# EAGLE library part HTRAM2 (library Transputers)
HTRAM size-2 Board INMOS Standard Transputer Boards for T9000 series components. Source: INMOS T9000 development Tools Preliminary Datasheets 1993. Arto Kyyhkynen, artoky@dlc.fi
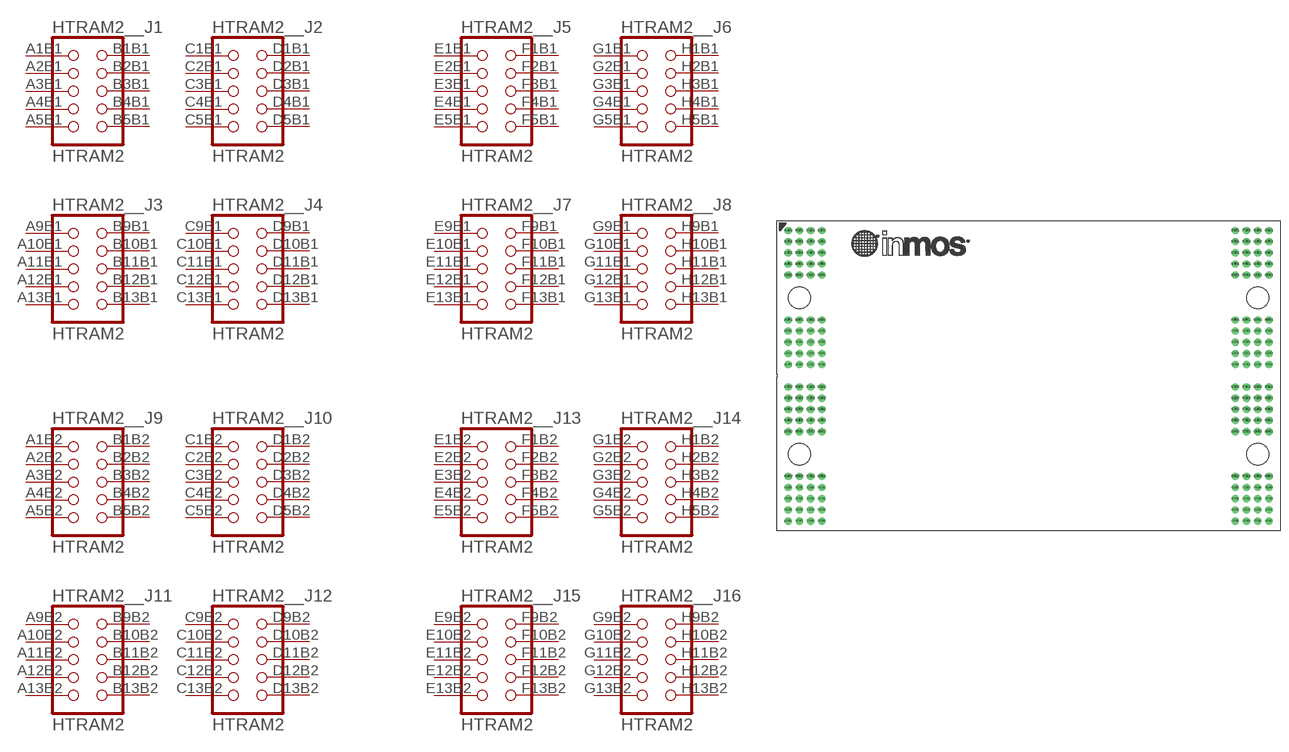
[diagram p20: symbol with the pads of HTRAM-SIZE2; footprint HTRAM-SIZE2]

Designator prefix HTRAM2_; gates _J1=HTRAM_TMM _J2=HTRAM_TMM _J3=HTRAM_TMM _J4=HTRAM_TMM _J5=HTRAM_TMM _J6=HTRAM_TMM _J7=HTRAM_TMM _J8=HTRAM_TMM _J9=HTRAM_TMM _J10=HTRAM_TMM _J11=HTRAM_TMM _J12=HTRAM_TMM _J13=HTRAM_TMM _J14=HTRAM_TMM _J15=HTRAM_TMM _J16=HTRAM_TMM

## HTRAM2  [HTRAM-SIZE2]
A1B1  _J1:1  pas
A1B2  _J9:1  pas
A2B1  _J1:3  pas
A2B2  _J9:3  pas
A3B1  _J1:5  pas
A3B2  _J9:5  pas
A4B1  _J1:7  pas
A4B2  _J9:7  pas
A5B1  _J1:9  pas
A5B2  _J9:9  pas
A9B1  _J3:1  pas
A9B2  _J11:1  pas
A10B1  _J3:3  pas
A10B2  _J11:3  pas
A11B1  _J3:5  pas
A11B2  _J11:5  pas
A12B1  _J3:7  pas
A12B2  _J11:7  pas
A13B1  _J3:9  pas
A13B2  _J11:9  pas
B1B1  _J1:2  pas
B1B2  _J9:2  pas
B2B1  _J1:4  pas
B2B2  _J9:4  pas
B3B1  _J1:6  pas
B3B2  _J9:6  pas
B4B1  _J1:8  pas
B4B2  _J9:8  pas
B5B1  _J1:10  pas
B5B2  _J9:10  pas
B9B1  _J3:2  pas
B9B2  _J11:2  pas
B10B1  _J3:4  pas
B10B2  _J11:4  pas
B11B1  _J3:6  pas
B11B2  _J11:6  pas
B12B1  _J3:8  pas
B12B2  _J11:8  pas
B13B1  _J3:10  pas
B13B2  _J11:10  pas
C1B1  _J2:1  pas
C1B2  _J10:1  pas
C2B1  _J2:3  pas
C2B2  _J10:3  pas
C3B1  _J2:5  pas
C3B2  _J10:5  pas
C4B1  _J2:7  pas
C4B2  _J10:7  pas
C5B1  _J2:9  pas
C5B2  _J10:9  pas
C9B1  _J4:1  pas
C9B2  _J12:1  pas
C10B1  _J4:3  pas
C10B2  _J12:3  pas
C11B1  _J4:5  pas
C11B2  _J12:5  pas
C12B1  _J4:7  pas
C12B2  _J12:7  pas
C13B1  _J4:9  pas
C13B2  _J12:9  pas
D1B1  _J2:2  pas
D1B2  _J10:2  pas
D2B1  _J2:4  pas
D2B2  _J10:4  pas
D3B1  _J2:6  pas
D3B2  _J10:6  pas
D4B1  _J2:8  pas
D4B2  _J10:8  pas
D5B1  _J2:10  pas
D5B2  _J10:10  pas
D9B1  _J4:2  pas
D9B2  _J12:2  pas
D10B1  _J4:4  pas
D10B2  _J12:4  pas
D11B1  _J4:6  pas
D11B2  _J12:6  pas
D12B1  _J4:8  pas
D12B2  _J12:8  pas
D13B1  _J4:10  pas
D13B2  _J12:10  pas
E1B1  _J5:1  pas
E1B2  _J13:1  pas
E2B1  _J5:3  pas
E2B2  _J13:3  pas
E3B1  _J5:5  pas
E3B2  _J13:5  pas
E4B1  _J5:7  pas
E4B2  _J13:7  pas
E5B1  _J5:9  pas
E5B2  _J13:9  pas
E9B1  _J7:1  pas
E9B2  _J15:1  pas
E10B1  _J7:3  pas
E10B2  _J15:3  pas
E11B1  _J7:5  pas
E11B2  _J15:5  pas
E12B1  _J7:7  pas
E12B2  _J15:7  pas
E13B1  _J7:9  pas
E13B2  _J15:9  pas
F1B1  _J5:2  pas
F1B2  _J13:2  pas
F2B1  _J5:4  pas
F2B2  _J13:4  pas
F3B1  _J5:6  pas
F3B2  _J13:6  pas
F4B1  _J5:8  pas
F4B2  _J13:8  pas
F5B1  _J5:10  pas
F5B2  _J13:10  pas
F9B1  _J7:2  pas
F9B2  _J15:2  pas
F10B1  _J7:4  pas
F10B2  _J15:4  pas
F11B1  _J7:6  pas
F11B2  _J15:6  pas
F12B1  _J7:8  pas
F12B2  _J15:8  pas
F13B1  _J7:10  pas
F13B2  _J15:10  pas
G1B1  _J6:1  pas
G1B2  _J14:1  pas
G2B1  _J6:3  pas
G2B2  _J14:3  pas
G3B1  _J6:5  pas
G3B2  _J14:5  pas
G4B1  _J6:7  pas
G4B2  _J14:7  pas
G5B1  _J6:9  pas
G5B2  _J14:9  pas
G9B1  _J8:1  pas
G9B2  _J16:1  pas
G10B1  _J8:3  pas
G10B2  _J16:3  pas
G11B1  _J8:5  pas
G11B2  _J16:5  pas
G12B1  _J8:7  pas
G12B2  _J16:7  pas
G13B1  _J8:9  pas
G13B2  _J16:9  pas
H1B1  _J6:2  pas
H1B2  _J14:2  pas
H2B1  _J6:4  pas
H2B2  _J14:4  pas
H3B1  _J6:6  pas
H3B2  _J14:6  pas
H4B1  _J6:8  pas
H4B2  _J14:8  pas
H5B1  _J6:10  pas
H5B2  _J14:10  pas
H9B1  _J8:2  pas
H9B2  _J16:2  pas
H10B1  _J8:4  pas
H10B2  _J16:4  pas
H11B1  _J8:6  pas
H11B2  _J16:6  pas
H12B1  _J8:8  pas
H12B2  _J16:8  pas
H13B1  _J8:10  pas
H13B2  _J16:10  pas

## Footprint HTRAM-SIZE2 (pad centres in mm)
HTRAM size-2
drill 0.777 round: A1B1 0,0; A1B2 0,-28; A2B1 0,-2; A2B2 0,-30; A3B1 0,-4; A3B2 0,-32; A4B1 0,-6; A4B2 0,-34; A5B1 0,-8; A5B2 0,-36; A9B1 0,-16; A9B2 0,-44; A10B1 0,-18; A10B2 0,-46; A11B1 0,-20; A11B2 0,-48; A12B1 0,-22; A12B2 0,-50; A13B1 0,-24; A13B2 0,-52; B1B1 2,0; B1B2 2,-28; B2B1 2,-2; B2B2 2,-30; B3B1 2,-4; B3B2 2,-32; B4B1 2,-6; B4B2 2,-34; B5B1 2,-8; B5B2 2,-36; B9B1 2,-16; B9B2 2,-44; B10B1 2,-18; B10B2 2,-46; B11B1 2,-20; B11B2 2,-48; B12B1 2,-22; B12B2 2,-50; B13B1 2,-24; B13B2 2,-52; C1B1 4,0; C1B2 4,-28; C2B1 4,-2; C2B2 4,-30; C3B1 4,-4; C3B2 4,-32; C4B1 4,-6; C4B2 4,-34; C5B1 4,-8; C5B2 4,-36; C9B1 4,-16; C9B2 4,-44; C10B1 4,-18; C10B2 4,-46; C11B1 4,-20; C11B2 4,-48; C12B1 4,-22; C12B2 4,-50; C13B1 4,-24; C13B2 4,-52; D1B1 6,0; D1B2 6,-28; D2B1 6,-2; D2B2 6,-30; D3B1 6,-4; D3B2 6,-32; D4B1 6,-6; D4B2 6,-34; D5B1 6,-8; D5B2 6,-36; D9B1 6,-16; D9B2 6,-44; D10B1 6,-18; D10B2 6,-46; D11B1 6,-20; D11B2 6,-48; D12B1 6,-22; D12B2 6,-50; D13B1 6,-24; D13B2 6,-52; E1B1 80,0; E1B2 80,-28; E2B1 80,-2; E2B2 80,-30; E3B1 80,-4; E3B2 80,-32; E4B1 80,-6; E4B2 80,-34; E5B1 80,-8; E5B2 80,-36; E9B1 80,-16; E9B2 80,-44; E10B1 80,-18; E10B2 80,-46; E11B1 80,-20; E11B2 80,-48; E12B1 80,-22; E12B2 80,-50; E13B1 80,-24; E13B2 80,-52; F1B1 82,0; F1B2 82,-28; F2B1 82,-2; F2B2 82,-30; F3B1 82,-4; F3B2 82,-32; F4B1 82,-6; F4B2 82,-34; F5B1 82,-8; F5B2 82,-36; F9B1 82,-16; F9B2 82,-44; F10B1 82,-18; F10B2 82,-46; F11B1 82,-20; F11B2 82,-48; F12B1 82,-22; F12B2 82,-50; F13B1 82,-24; F13B2 82,-52; G1B1 84,0; G1B2 84,-28; G2B1 84,-2; G2B2 84,-30; G3B1 84,-4; G3B2 84,-32; G4B1 84,-6; G4B2 84,-34; G5B1 84,-8; G5B2 84,-36; G9B1 84,-16; G9B2 84,-44; G10B1 84,-18; G10B2 84,-46; G11B1 84,-20; G11B2 84,-48; G12B1 84,-22; G12B2 84,-50; G13B1 84,-24; G13B2 84,-52; H1B1 86,0; H1B2 86,-28; H2B1 86,-2; H2B2 86,-30; H3B1 86,-4; H3B2 86,-32; H4B1 86,-6; H4B2 86,-34; H5B1 86,-8; H5B2 86,-36; H9B1 86,-16; H9B2 86,-44; H10B1 86,-18; H10B2 86,-46; H11B1 86,-20; H11B2 86,-48; H12B1 86,-22; H12B2 86,-50; H13B1 86,-24; H13B2 86,-52
hole 3.85 at 2,-12
hole 3.85 at 84,-12
hole 3.85 at 2,-40
hole 3.85 at 84,-40